# EAGLE library part MSP432E401YTPDT (library Microcontroller)
IC MCU 32BIT 1MB FLASH 128TQFP Manufacturer's datasheet <http://www.ti.com/lit/ds/symlink/msp432e401y.pdf>
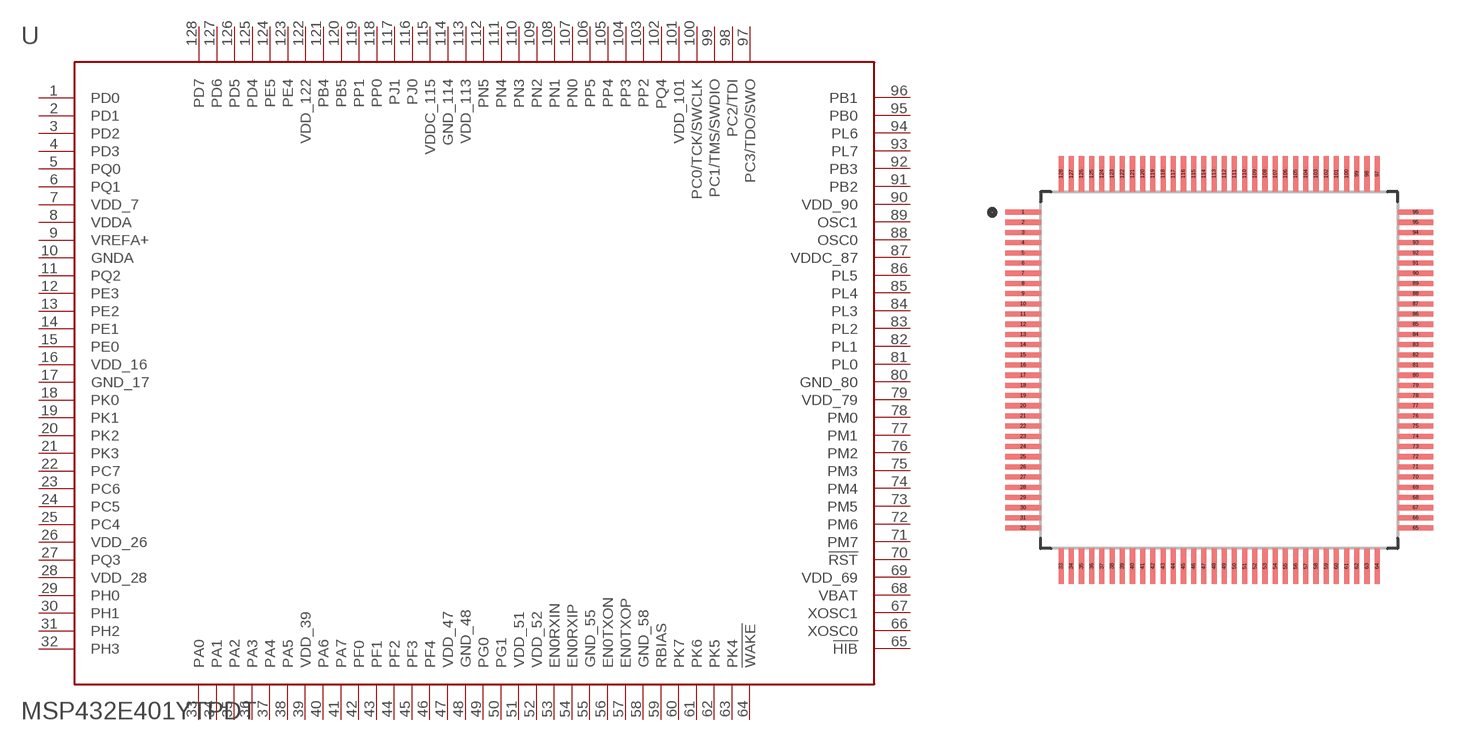
[diagram p12: symbol with the pads of 128-TQFP; footprint 128-TQFP]

Designator prefix U

## MSP432E401YTPDT (CREATED_BY: PCBLayout.com; DIGIKEY_PART_NUMBER: 296-47559-ND; MANUFACTURER: Texas Instruments; MPN: MSP432E401YTPDT; PACKAGE: 128-TQFP)  [128-TQFP]
1  PD0
2  PD1
3  PD2
4  PD3
5  PQ0
6  PQ1
7  VDD_7  pwr
8  VDDA  pwr
9  VREFA+  pwr
10  GNDA  pwr
11  PQ2
12  PE3
13  PE2
14  PE1
15  PE0
16  VDD_16  pwr
17  GND_17  pwr
18  PK0
19  PK1
20  PK2
21  PK3
22  PC7
23  PC6
24  PC5
25  PC4
26  VDD_26  pwr
27  PQ3
28  VDD_28  pwr
29  PH0
30  PH1
31  PH2
32  PH3
33  PA0
34  PA1
35  PA2
36  PA3
37  PA4
38  PA5
39  VDD_39  pwr
40  PA6
41  PA7
42  PF0
43  PF1
44  PF2
45  PF3
46  PF4
47  VDD_47  pwr
48  GND_48  pwr
49  PG0
50  PG1
51  VDD_51  pwr
52  VDD_52  pwr
53  EN0RXIN
54  EN0RXIP
55  GND_55  pwr
56  EN0TXON
57  EN0TXOP
58  GND_58  pwr
59  RBIAS  out
60  PK7
61  PK6
62  PK5
63  PK4
64  !WAKE  in
65  !HIB  out
66  XOSC0  in
67  XOSC1  out
68  VBAT  pwr
69  VDD_69  pwr
70  !RST  in
71  PM7
72  PM6
73  PM5
74  PM4
75  PM3
76  PM2
77  PM1
78  PM0
79  VDD_79  pwr
80  GND_80  pwr
81  PL0
82  PL1
83  PL2
84  PL3
85  PL4
86  PL5
87  VDDC_87  pwr
88  OSC0  in
89  OSC1  out
90  VDD_90  pwr
91  PB2
92  PB3
93  PL7
94  PL6
95  PB0
96  PB1
97  PC3/TDO/SWO
98  PC2/TDI
99  PC1/TMS/SWDIO
100  PC0/TCK/SWCLK
101  VDD_101  pwr
102  PQ4
103  PP2
104  PP3
105  PP4
106  PP5
107  PN0
108  PN1
109  PN2
110  PN3
111  PN4
112  PN5
113  VDD_113  pwr
114  GND_114  pwr
115  VDDC_115  pwr
116  PJ0
117  PJ1
118  PP0
119  PP1
120  PB5
121  PB4
122  VDD_122  pwr
123  PE4
124  PE5
125  PD4
126  PD5
127  PD6
128  PD7

## Footprint 128-TQFP (pad centres in mm)
smd 1.4 x 0.2: 1 -7.7,6.2; 2 -7.7,5.8; 3 -7.7,5.4; 4 -7.7,5; 5 -7.7,4.6; 6 -7.7,4.2; 7 -7.7,3.8; 8 -7.7,3.4; 9 -7.7,3; 10 -7.7,2.6; 11 -7.7,2.2; 12 -7.7,1.8; 13 -7.7,1.4; 14 -7.7,1; 15 -7.7,0.6; 16 -7.7,0.2; 17 -7.7,-0.2; 18 -7.7,-0.6; 19 -7.7,-1; 20 -7.7,-1.4; 21 -7.7,-1.8; 22 -7.7,-2.2; 23 -7.7,-2.6; 24 -7.7,-3; 25 -7.7,-3.4; 26 -7.7,-3.8; 27 -7.7,-4.2; 28 -7.7,-4.6; 29 -7.7,-5; 30 -7.7,-5.4; 31 -7.7,-5.8; 32 -7.7,-6.2; 65 7.7,-6.2; 66 7.7,-5.8; 67 7.7,-5.4; 68 7.7,-5; 69 7.7,-4.6; 70 7.7,-4.2; 71 7.7,-3.8; 72 7.7,-3.4; 73 7.7,-3; 74 7.7,-2.6; 75 7.7,-2.2; 76 7.7,-1.8; 77 7.7,-1.4; 78 7.7,-1; 79 7.7,-0.6; 80 7.7,-0.2; 81 7.7,0.2; 82 7.7,0.6; 83 7.7,1; 84 7.7,1.4; 85 7.7,1.8; 86 7.7,2.2; 87 7.7,2.6; 88 7.7,3; 89 7.7,3.4; 90 7.7,3.8; 91 7.7,4.2; 92 7.7,4.6; 93 7.7,5; 94 7.7,5.4; 95 7.7,5.8; 96 7.7,6.2
smd 0.2 x 1.4: 33 -6.2,-7.7; 34 -5.8,-7.7; 35 -5.4,-7.7; 36 -5,-7.7; 37 -4.6,-7.7; 38 -4.2,-7.7; 39 -3.8,-7.7; 40 -3.4,-7.7; 41 -3,-7.7; 42 -2.6,-7.7; 43 -2.2,-7.7; 44 -1.8,-7.7; 45 -1.4,-7.7; 46 -1,-7.7; 47 -0.6,-7.7; 48 -0.2,-7.7; 49 0.2,-7.7; 50 0.6,-7.7; 51 1,-7.7; 52 1.4,-7.7; 53 1.8,-7.7; 54 2.2,-7.7; 55 2.6,-7.7; 56 3,-7.7; 57 3.4,-7.7; 58 3.8,-7.7; 59 4.2,-7.7; 60 4.6,-7.7; 61 5,-7.7; 62 5.4,-7.7; 63 5.8,-7.7; 64 6.2,-7.7; 97 6.2,7.7; 98 5.8,7.7; 99 5.4,7.7; 100 5,7.7; 101 4.6,7.7; 102 4.2,7.7; 103 3.8,7.7; 104 3.4,7.7; 105 3,7.7; 106 2.6,7.7; 107 2.2,7.7; 108 1.8,7.7; 109 1.4,7.7; 110 1,7.7; 111 0.6,7.7; 112 0.2,7.7; 113 -0.2,7.7; 114 -0.6,7.7; 115 -1,7.7; 116 -1.4,7.7; 117 -1.8,7.7; 118 -2.2,7.7; 119 -2.6,7.7; 120 -3,7.7; 121 -3.4,7.7; 122 -3.8,7.7; 123 -4.2,7.7; 124 -4.6,7.7; 125 -5,7.7; 126 -5.4,7.7; 127 -5.8,7.7; 128 -6.2,7.7